# EAGLE library part 6861XX14422_68613014422 (library WR-FPC)
WR-FPC 1.00 mm SMT ZIF Horizontal Bottom Contact KIND PROPERTIES Pitch 1 mm MATERIAL PROPERTIES Insulator Material PPS Contact Material Phosphor Bronze Contact Plating 100 (µ") Tin over 50 (µ") Nickel Contact Type Stamped <https://www.we-online.com/catalog/media/o33099v209%20Family_WR-FPC_68611214422.jpg> Details see: https://www.we-online.com/catalog/en/FPC_1_00_SMT_ZIF_HORIZONTAL_BOTTOM_CONTACT_6861XX14422/ Updated by Ella Wu 2020-08-26 2020(C) Wurth Elektronik
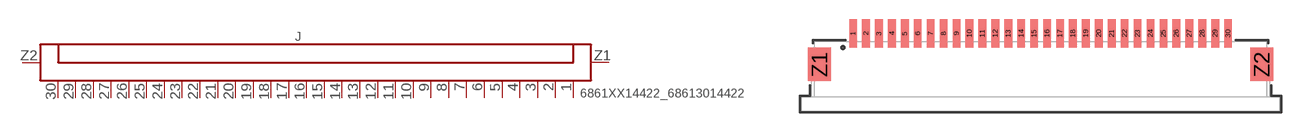
[diagram p58: symbol with the pads of 68613014422; footprint 68613014422]

Designator prefix J

## 6861XX14422_68613014422 (CONTACT-RESISTANCE: 20Ohm; DATASHEET-URL: https://www.we-online.com/catalog/datasheet/68613014422.pdf; IR: 1A; L: 37mm; MATE-WITH: WR-FFC 1.00 mm Flat Flexible Cable Type 1 (Contacts on same side)/ Type 2 (Contacts opposite); PACKAGING: Tape and Reel; PART-NUMBER: 68613014422; PINS: 30; PITCH: 1mm; TYPE: Horizontal; VALUE: 68613014422; WORKING-VOLTAGE: 125V(AC))  [68613014422]
1  1  pas
2  2  pas
3  3  pas
4  4  pas
5  5  pas
6  6  pas
7  7  pas
8  8  pas
9  9  pas
10  10  pas
11  11  pas
12  12  pas
13  13  pas
14  14  pas
15  15  pas
16  16  pas
17  17  pas
18  18  pas
19  19  pas
20  20  pas
21  21  pas
22  22  pas
23  23  pas
24  24  pas
25  25  pas
26  26  pas
27  27  pas
28  28  pas
29  29  pas
30  30  pas
Z1  Z1  pas
Z2  Z2  pas

## Footprint 68613014422 (pad centres in mm)
WR-FPC 1.00 mm SMT ZIF Horizontal Bottom Contact, 30 Pins
smd 0.6 x 2.2: 1 -14.5,3.33; 2 -13.5,3.33; 3 -12.5,3.33; 4 -11.5,3.33; 5 -10.5,3.33; 6 -9.5,3.33; 7 -8.5,3.33; 8 -7.5,3.33; 9 -6.5,3.33; 10 -5.5,3.33; 11 -4.5,3.33; 12 -3.5,3.33; 13 -2.5,3.33; 14 -1.5,3.33; 15 -0.5,3.33; 16 0.5,3.33; 17 1.5,3.33; 18 2.5,3.33; 19 3.5,3.33; 20 4.5,3.33; 21 5.5,3.33; 22 6.5,3.33; 23 7.5,3.33; 24 8.5,3.33; 25 9.5,3.33; 26 10.5,3.33; 27 11.5,3.33; 28 12.5,3.33; 29 13.5,3.33; 30 14.5,3.33
smd 1.8 x 2.6: Z1 -17.1,0.93; Z2 17.1,0.93